# EAGLE library part ESP32S-DEVKITC (library ENGR294)
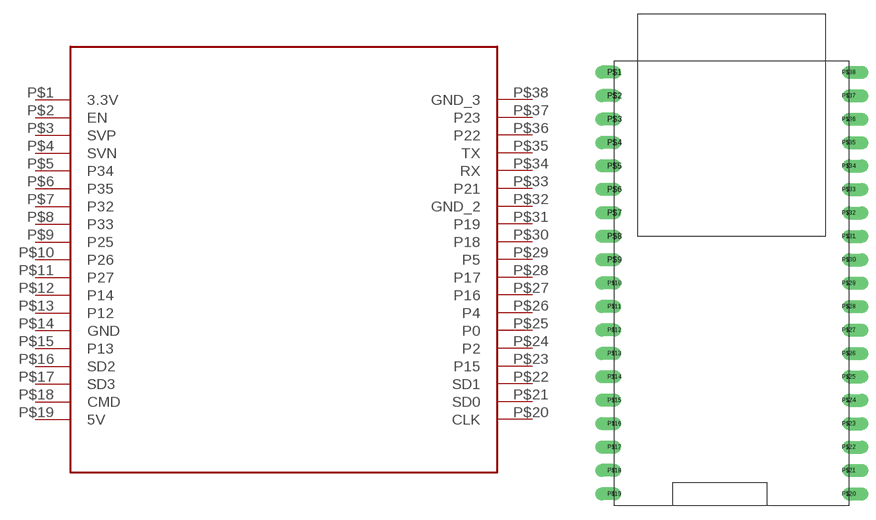
[diagram p14: symbol with the pads of ESP32S_DEVKITC; footprint ESP32S_DEVKITC]

Designator prefix -

## ESP32S-DEVKITC  [ESP32S_DEVKITC]
P$1  3.3V
P$2  EN
P$3  SVP
P$4  SVN
P$5  P34
P$6  P35
P$7  P32
P$8  P33
P$9  P25
P$10  P26
P$11  P27
P$12  P14
P$13  P12
P$14  GND
P$15  P13
P$16  SD2
P$17  SD3
P$18  CMD
P$19  5V
P$20  CLK
P$21  SD0
P$22  SD1
P$23  P15
P$24  P2
P$25  P0
P$26  P4
P$27  P16
P$28  P17
P$29  P5
P$30  P18
P$31  P19
P$32  GND_2
P$33  P21
P$34  RX
P$35  TX
P$36  P22
P$37  P23
P$38  GND_3

## Footprint ESP32S_DEVKITC (pad centres in mm)
drill 0.9 offset: P$1 0,0; P$2 0,-2.54; P$3 0,-5.08; P$4 0,-7.62; P$5 0,-10.16; P$6 0,-12.7; P$7 0,-15.24; P$8 0,-17.78; P$9 0,-20.32; P$10 0,-22.86; P$11 0,-25.4; P$12 0,-27.94; P$13 0,-30.48; P$14 0,-33.02; P$15 0,-35.56; P$16 0,-38.1; P$17 0,-40.64; P$18 0,-43.18; P$19 0,-45.72; P$20 25.4,-45.72; P$21 25.4,-43.18; P$22 25.4,-40.64; P$23 25.4,-38.1; P$24 25.4,-35.56; P$25 25.4,-33.02; P$26 25.4,-30.48; P$27 25.4,-27.94; P$28 25.4,-25.4; P$29 25.4,-22.86; P$30 25.4,-20.32; P$31 25.4,-17.78; P$32 25.4,-15.24; P$33 25.4,-12.7; P$34 25.4,-10.16; P$35 25.4,-7.62; P$36 25.4,-5.08; P$37 25.4,-2.54; P$38 25.4,0